# Altium footprint library TSSOP8.PcbLib: 1 footprints
Each footprint in its own frame and in the unit in brackets; x right, y up, seen from the top. Pads: shape width x height; smd on the part's side, far side on the other; paste and mask are expansions set on the pad; w line width, h text height; cw(c..) or ccw(c..) is an arc to the next point about the centre after c.
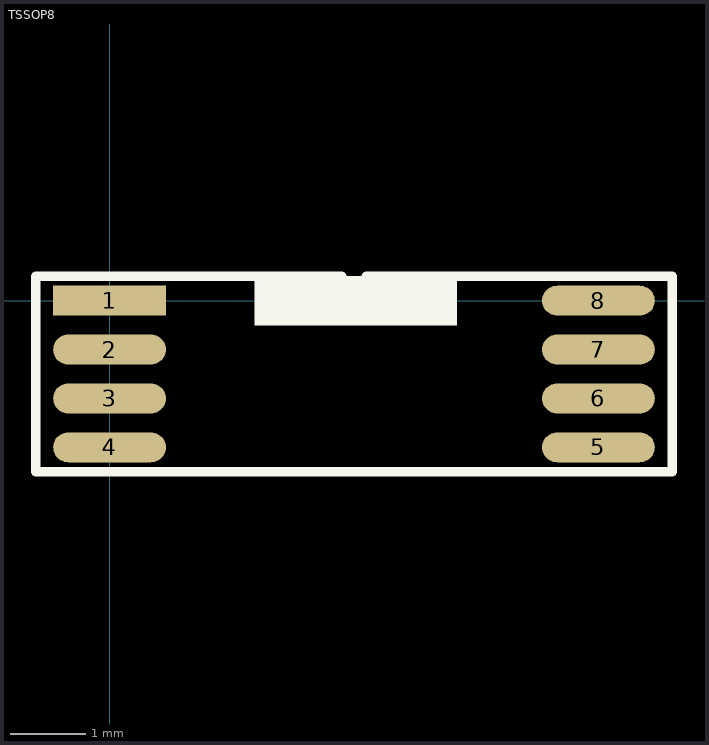
[diagram p0: the footprint, top view; thin cyan lines are the x and y axes]

## TSSOP8 [mm]
pads (8):
  rect 1.5x0.4 smd: 1(0,0)
  oval 1.5x0.4 smd: 2(0,-0.65) 3(0,-1.3) 4(0,-1.95) 5(6.5,-1.95) 6(6.5,-1.3) 7(6.5,-0.65) 8(6.5,0)
Top Overlay:
  rectangle: 1.93,-0.33 4.623,0.33
  lines w0.127: 3.087,0.325 -0.98,0.325 -0.98,-2.275 7.48,-2.275 7.48,0.325 3.412,0.325
3D body: height 1.02, standoff 0, extent 0.826,-2.261 5.601,0.305
3D body: height 0.3, standoff 0, extent -0.064,-0.178 0.495,0.127
3D body: height 0.64, standoff 0.3, extent 0.279,-0.178 1.105,0.127
3D body: height 1.04, standoff 1.02, extent 2.222,-0.381 4.204,0.254
3D body: height 0.64, standoff 0.3, extent 0.279,-0.813 1.105,-0.508
3D body: height 0.3, standoff 0, extent -0.064,-0.813 0.495,-0.508
3D body: height 0.64, standoff 0.3, extent 0.279,-1.448 1.105,-1.143
3D body: height 0.3, standoff 0, extent -0.064,-1.448 0.495,-1.143
3D body: height 0.64, standoff 0.3, extent 0.279,-2.083 1.105,-1.778
3D body: height 0.3, standoff 0, extent -0.064,-2.083 0.495,-1.778
3D body: height 0.64, standoff 0.3, extent 5.347,-2.083 6.172,-1.778
3D body: height 0.3, standoff 0, extent 5.956,-2.083 6.515,-1.778
3D body: height 0.64, standoff 0.3, extent 5.347,-1.448 6.172,-1.143
3D body: height 0.3, standoff 0, extent 5.956,-1.448 6.515,-1.143
3D body: height 0.64, standoff 0.3, extent 5.347,-0.813 6.172,-0.508
3D body: height 0.3, standoff 0, extent 5.956,-0.813 6.515,-0.508
3D body: height 0.64, standoff 0.3, extent 5.347,-0.178 6.172,0.127
3D body: height 0.3, standoff 0, extent 5.956,-0.178 6.515,0.127